# Altium footprint library PcbLib1.PcbLib: 2 footprints
Each footprint in its own frame and in the unit in brackets; x right, y up, seen from the top. Pads: shape width x height; smd on the part's side, far side on the other; paste and mask are expansions set on the pad; w line width, h text height; cw(c..) or ccw(c..) is an arc to the next point about the centre after c.
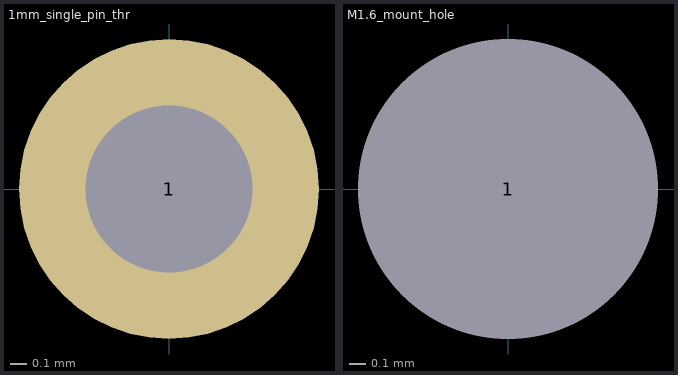
[diagram p0: the footprints below, top view; thin cyan lines are the x and y axes]

## 1mm_single_pin_thr [mm] "1mm_single_pin_through_hole"
pads (1):
  round 1.8 hole 1: 1(0,0)

## M1.6_mount_hole [mm] "M1.6_mount_hole"
pads (1):
  round 1 hole 1.8: 1(0,0)